# EAGLE library part RR_7X_A (library #PaJa_31)
Odporova sit - 7x - spol. vyvod
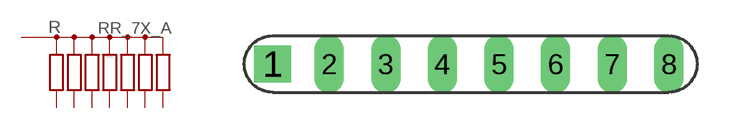
[diagram p31: symbol with the pads of RR_7X_A; footprint RR_7X_A]

Designator prefix R

## RR_7X_A  [RR_7X_A]
1  R  pas
2  R1  pas
3  R2  pas
4  R3  pas
5  R4  pas
6  R5  pas
7  R6  pas
8  R7  pas

## Footprint RR_7X_A (pad centres in mm)
drill 0.813 pad 1.676 square: 1 -8.89,0
drill 0.813 pad 1.27 long: 2 -6.35,0; 3 -3.81,0; 4 -1.27,0; 5 1.27,0; 6 3.81,0; 7 6.35,0; 8 8.89,0